# Altium footprint library CJS1200TA2.PcbLib: 1 footprints
Each footprint in its own frame and in the unit in brackets; x right, y up, seen from the top. Pads: shape width x height; smd on the part's side, far side on the other; paste and mask are expansions set on the pad; w line width, h text height; cw(c..) or ccw(c..) is an arc to the next point about the centre after c.
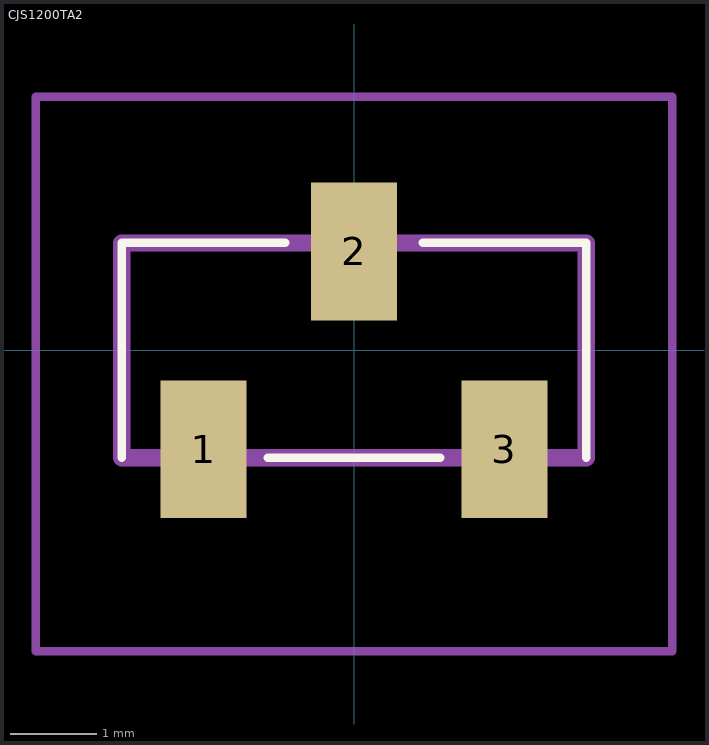
[diagram p0: the footprint, top view; thin cyan lines are the x and y axes]

## CJS1200TA2 [mm]
pads (3):
  rect 1x1.6 smd: 1(-1.75,-1.15) 2(0,1.15) 3(1.75,-1.15)
Top Overlay:
  lines w0.1: -2.7,-1.25 -2.7,1.25 -0.8,1.25 ; -1,-1.25 1,-1.25 ; 0.8,1.25 2.7,1.25 2.7,-1.25
Mechanical 15:
  lines w0.2: -2.7,-1.25 -2.7,1.25 2.7,1.25 2.7,-1.25 -2.7,-1.25
Mechanical 20:
  lines w0.1: -3.7,-3.5 -3.7,2.95 3.7,2.95 3.7,-3.5 -3.7,-3.5
3D body "CJS-1200TA2.stp": height 2.86, standoff 0.34, extent -2.7,-1.4 2.7,1.4